# EAGLE library part SN74LVC244A (library 74logic)
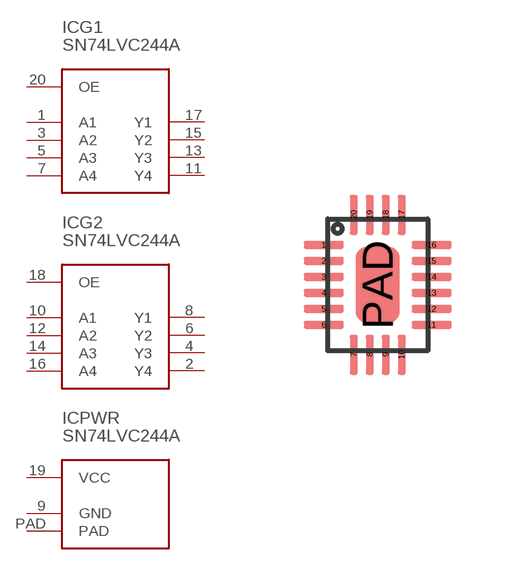
[diagram p0: symbol with the pads of X1QFN20; footprint X1QFN20]

Designator prefix IC; gates G1=4BUFFER-OE G2=4BUFFER-OE PWR=LOGIC-POWER-PAD

## SN74LVC244ARWP  [X1QFN20]
1  G1:A1
2  G2:Y4
3  G1:A2
4  G2:Y3
5  G1:A3
6  G2:Y2
7  G1:A4
8  G2:Y1
9  PWR:GND
10  G2:A1
11  G1:Y4
12  G2:A2
13  G1:Y3
14  G2:A3
15  G1:Y2
16  G2:A4
17  G1:Y1
18  G2:OE
19  PWR:VCC
20  G1:OE
PAD  PWR:PAD

## Footprint X1QFN20 (pad centres in mm)
smd 1 x 0.2: 1 -1.35,1; 2 -1.35,0.6; 3 -1.35,0.2; 4 -1.35,-0.2; 5 -1.35,-0.6; 6 -1.35,-1; 11 1.35,-1; 12 1.35,-0.6; 13 1.35,-0.2; 14 1.35,0.2; 15 1.35,0.6; 16 1.35,1
smd 0.2 x 1: 7 -0.6,-1.75; 8 -0.2,-1.75; 9 0.2,-1.75; 10 0.6,-1.75; 17 0.6,1.75; 18 0.2,1.75; 19 -0.2,1.75; 20 -0.6,1.75
smd 1.1 x 1.9: PAD 0,0